# EAGLE library part NC5F*-SW (library con-neutrik_xlr_2)
5 pin XLR Female with Switch plus Ground, Vertical Series A and B Metal faceplate makes no difference to size
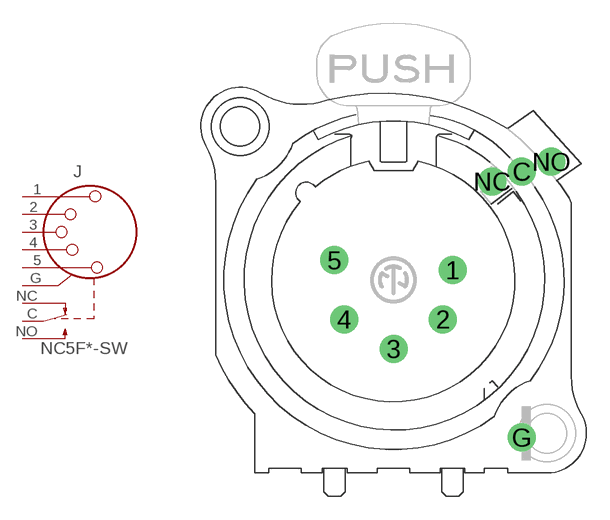
[diagram p5: symbol with the pads of NC5FV-SW; footprint NC5FV-SW]

Designator prefix J

## NC5FAV-SW, NC5FBV-SW  [NC5FV-SW]
1  1  pas
2  2  pas
3  3  pas
4  4  pas
5  5  pas
C  C  pas
G  G  pas
NC  NC  pas
NO  NO  pas

## Footprint NC5FV-SW (pad centres in mm)
5 pin XLR Female with Switch plus Ground Vertical, A or B Series Metal faceplate makes no difference to size
drill 1.2: 1 3.81,0.635; 2 3.175,-2.54; 3 0,-4.445; 4 -3.175,-2.54; 5 -3.81,1.27; G 8.255,-10.16
drill 1.2 pad 1.7: C 8.255,6.985; NC 6.35,6.35; NO 10.16,7.62